# Altium schematic symbol library Inproject.SchLib: 3 symbols
Pins are listed as number, name and electrical type; pins without a type are passive.

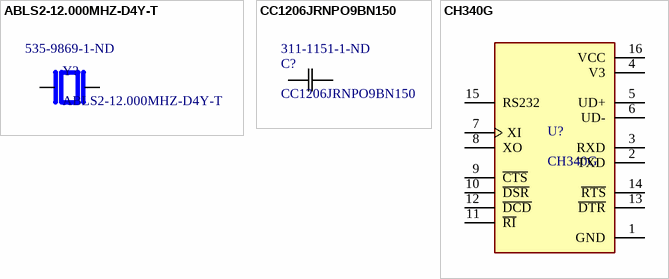
[diagram p0: symbols ABLS2-12.000MHZ-D4Y-T to CH340G]

## ABLS2-12.000MHZ-D4Y-T
designator Y?  Supplier Part Number 1: 535-9869-1-ND
Crystal 12MHz ±30ppm (Tol) ±30ppm (Stability) 18pF FUND 50Ohm 2-Pin HC-49/US SMD T/R; Manufacturer: Abracon; ESR (Equivalent Series Resistance): 50R; Supplier 1: Digikey; Manufacturer Part Number: ABLS2-12.000MHZ-D4Y-T; RoHS: Yes; Category: Crystals; Stock 1: 79293; Pricing 1: 1=0.39, 10=0.332, 50=0.263, 100=0.244, 500=0.21782 (USD); Mount: Surface Mount; Number of Pins: 2; Min Operating Temperature: -40°C; Max Operating Temperature: 85°C; Frequency: 12MHz; Load Capacitance: 18pF; Package Quantity: 1000; Tolerance: 30ppm; Packaging: Tape and Reel; Frequency Tolerance: 30ppm; Frequency Stability: 30ppm; Termination: SMD/SMT; Series Resistance: 50R; Series: ABLS2; Operating Frequency: 12 MHz; Length: 11.4mm; Width: 0.185inch; Height: 0.13inch; Depth: 4.7mm; Reach SVHC Compliant: Yes; Lead Free: Lead Free; RoHS Compliant: Yes; ComponentLink1URL: https://datasheet.ciiva.com/15116/getdatasheetpartid-719896-15116779.pdf?src-supplier=Verical; ComponentLink1Description: https://datasheet.ciiva.com/15116/getdatasheetpartid-719896-15116779.pdf?src-supplier=Verical; ComponentLink2URL: https://datasheet.ciiva.com/854/abls2-854393.pdf?src-supplier=Digikey; ComponentLink2Description: https://datasheet.ciiva.com/854/abls2-854393.pdf?src-supplier=Digikey; ComponentLink3URL: https://datasheet.ciiva.com/854/abls2-854394.pdf?src-supplier=Digikey; ComponentLink3Description: https://datasheet.ciiva.com/854/abls2-854394.pdf?src-supplier=Digikey; ComponentLink4URL: https://datasheet.ciiva.com/854/abls2-854395.pdf?src-supplier=Digikey; ComponentLink4Description: https://datasheet.ciiva.com/854/abls2-854395.pdf?src-supplier=Digikey; ComponentLink5URL: https://datasheet.ciiva.com/3175/abls2-3175498.pdf?src-supplier=Avnet; ComponentLink5Description: https://datasheet.ciiva.com/3175/abls2-3175498.pdf?src-supplier=Avnet; ComponentLink6URL: https://datasheet.ciiva.com/7998/abls2-7998445.pdf?src-supplier=Element14; ComponentLink6Description: https://datasheet.ciiva.com/7998/abls2-7998445.pdf?src-supplier=Element14; ComponentLink7URL: https://datasheet.ciiva.com/16208/abls2-16208630.pdf?src-supplier=Future+Electronics; ComponentLink7Description: https://datasheet.ciiva.com/16208/abls2-16208630.pdf?src-supplier=Future+Electronics; LCSC Part Number: C1985239
footprint ABLS2-12.000MHZ-D4Y-T
pins: 1, 2

## CC1206JRNPO9BN150
designator C?  Supplier Part Number 1: 311-1151-1-ND
Multilayer Ceramic Capacitor, 15 pF, 50 V, ± 5%, C0G (NP0), 1206 [3216 Metric]; Manufacturer: Yageo; Capacitance: 15pF; Voltage Rating (DC): 50V; Dissipation Factor: 0.1%; Insulation Resistance: 10GR; Supplier 1: Digikey; Manufacturer Part Number: CC1206JRNPO9BN150; RoHS: Yes; Category: Ceramic Capacitors; Stock 1: 28854; Pricing 1: 1=0.24, 10=0.157, 50=0.0994, 100=0.0796, 500=0.05746, 1000=0.05083 (USD); Mount: Surface Mount; Case/Package: 1206; Case Code (Imperial): 1206; Case Code (Metric): 3216; Weight: 0.000571oz; Material: Ceramic; Min Operating Temperature: -55°C; Max Operating Temperature: 125°C; Packaging: Tape and Reel; Tolerance: 5%; Voltage Rating: 50V; Dielectric: C0G; Termination: SMD/SMT; Series: CC; Construction: Flat; Length: 3.2mm; Width: 1.6mm; Height: 0.6mm; Depth: 1.6mm; Radiation Hardening: No; Lead Free: Lead Free; RoHS Compliant: Yes; ComponentLink1URL: https://datasheet.ciiva.com/156/mlccorderingcode-156381.pdf?src-supplier=Digikey; ComponentLink1Description: https://datasheet.ciiva.com/156/mlccorderingcode-156381.pdf?src-supplier=Digikey; ComponentLink2URL: https://datasheet.ciiva.com/156/mlccorderingcode-156382.pdf?src-supplier=Digikey; ComponentLink2Description: https://datasheet.ciiva.com/156/mlccorderingcode-156382.pdf?src-supplier=Digikey; ComponentLink3URL: https://datasheet.ciiva.com/156/mlccorderingcode-156383.pdf?src-supplier=Digikey; ComponentLink3Description: https://datasheet.ciiva.com/156/mlccorderingcode-156383.pdf?src-supplier=Digikey; ComponentLink4URL: https://datasheet.ciiva.com/26863/getdatasheetpartid-94181-26863045.pdf?src-supplier=Verical; ComponentLink4Description: https://datasheet.ciiva.com/26863/getdatasheetpartid-94181-26863045.pdf?src-supplier=Verical; ComponentLink5URL: https://datasheet.ciiva.com/29242/445461-da-01-en-kerko-chip-1206-np0-15pf-5proz-50vg-29242151.pdf?src-supplier=Conrad; ComponentLink5Description: https://datasheet.ciiva.com/29242/445461-da-01-en-kerko-chip-1206-np0-15pf-5proz-50vg-29242151.pdf?src-supplier=Conrad; LCSC Part Number: C541476
footprint CC1206JRNPO9BN150
pins: 1, 2

## CH340G
designator U?
LCSC Part Number: C14267
footprint CH340G
pins: 1 GND, 2 TXD, 3 RXD, 4 V3, 5 UD+, 6 UD-, 7 XI, 8 XO, 9 ~{CTS}, 10 ~{DSR}, 11 ~{RI}, 12 ~{DCD}, 13 ~{DTR}, 14 ~{RTS}, 15 RS232, 16 VCC